# Altium integrated library Linear Technology Power Management Battery Management.IntLib: 626 symbols (part 23 of 56)
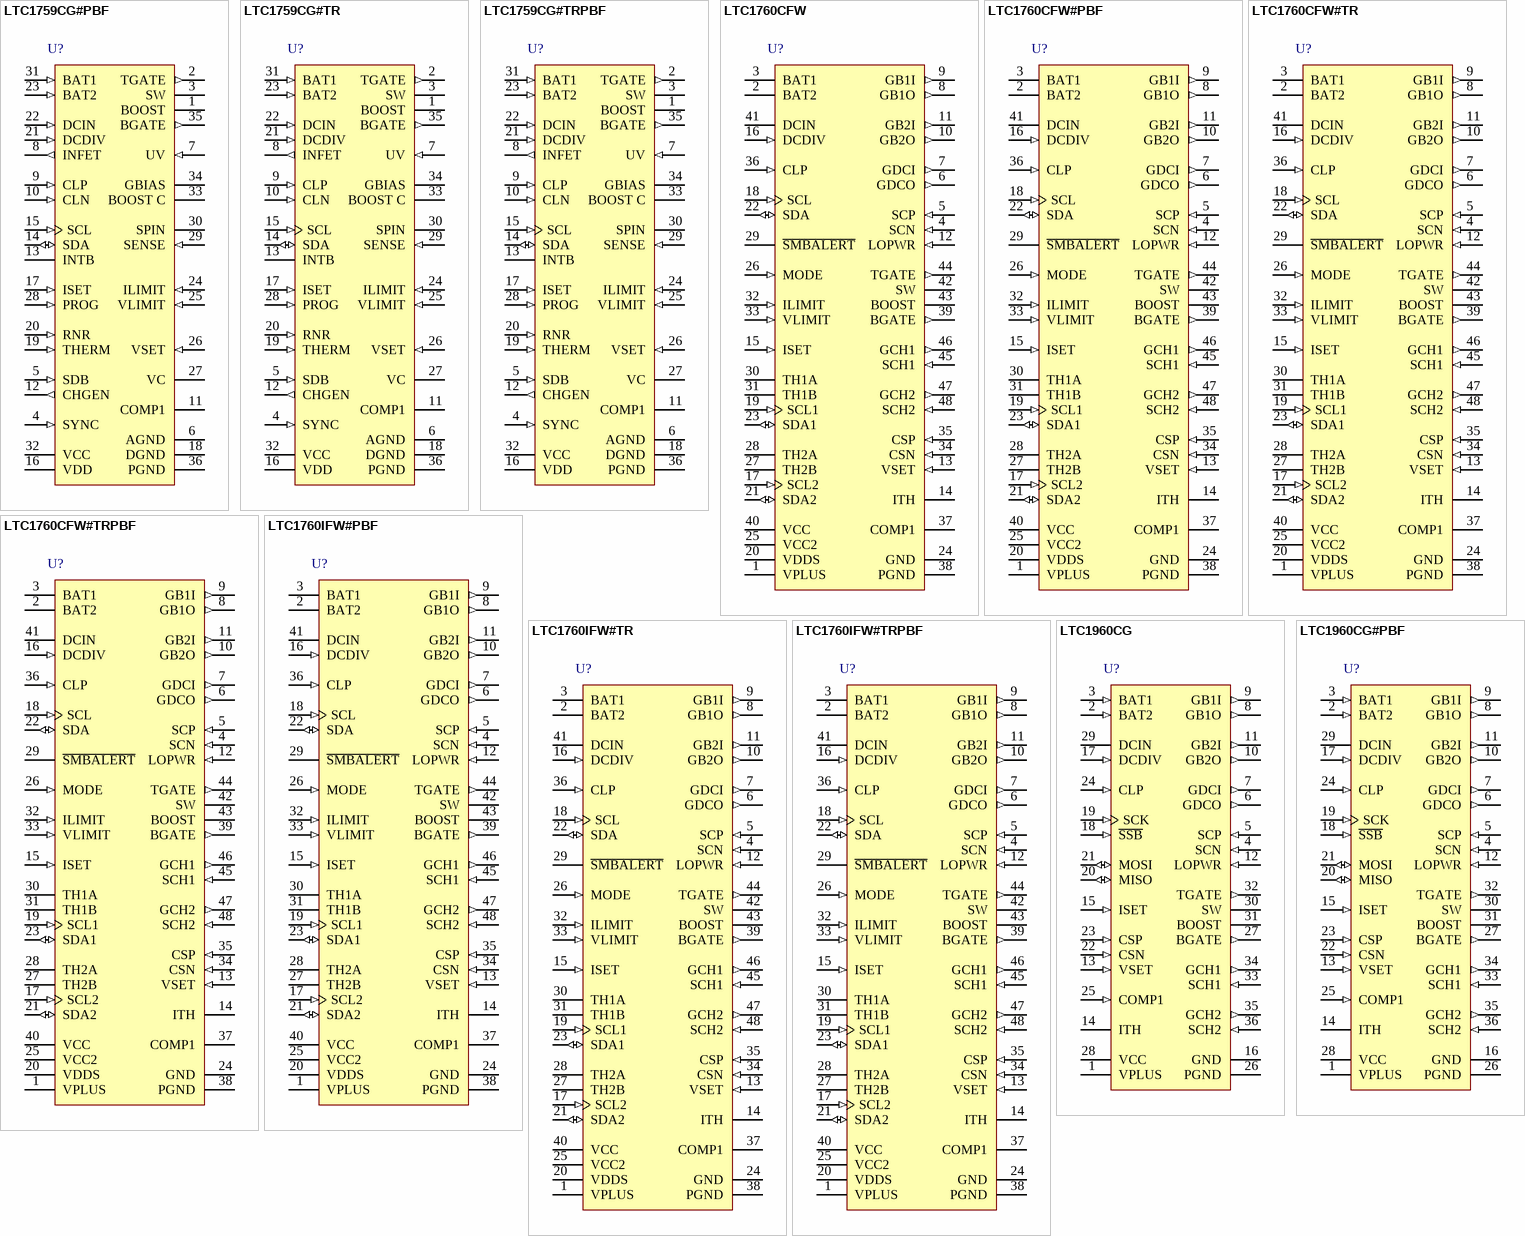
[diagram p44: symbols LTC1759CG#PBF to LTC1960CG#PBF]

## LTC1760CFW
designator U?
Dual Smart Battery System Manager, 6 to 28 V Vin, 48-pin SOP (FW-48), 0 to 85 degC; Manufacturer: Linear Technology; PartNumber: LTC1760CFW; Battery Chemistry: Li-Ion, Li-Polymer, NiCd, NiMH; Charge Termination: On-board timer, Microcontroller; Float Voltage: Adj; Max Charge Current(A): 4; Number of Cells: 2 to 6 (Li); Type of Charger: Switching, SMBus; Vin Max(V): 28; Vin Min(V): 6; DatasheetVersion: Rev. A; PackageVersion: Rev. A, 06/2010; PackageReference: FW-48; PackageDescription: 48-Pin Plastic TSSOP, Body 12.5 x 6.1 mm, Pitch 0.5 mm; Supplier 1: Digi-Key; Supplier Part Number 1: LTC1760CFW-ND; RoHS: FALSE; Mounting Technology: Surface Mount; ComponentLink1Description: Manufacturer URL; ComponentLink1URL: http://www.linear.com/; ComponentLink2Description: Datasheet; ComponentLink2URL: http://cds.linear.com/docs/en/datasheet/1760fa.pdf; ComponentLink3Description: Package Specification; ComponentLink3URL: http://cds.linear.com/docs/en/packaging/TSSOP_48_05-08-1651.pdf
footprint LT-FW-48_N (SOP, 48-Leads, Body 12.6x6.2mm, Pitch 0.5mm, IPC Medium Density)
footprint LT-FW-48_L (SOP, 48-Leads, Body 12.6x6.2mm, Pitch 0.5mm, IPC High Density)
footprint LT-FW-48_M (SOP, 48-Leads, Body 12.6x6.2mm, Pitch 0.5mm, IPC Low Density)
pins: 1 VPLUS (power) "Supply. The VPLUS pin is connected via four internal diodes to the DCIN, SCN, BAT1, and BAT2 pins. Bypass this pin with a 0.1uF capacitor and a 1uF capacitor (see Typical Applications for complete circuit).", 2 BAT2 (power) "These two pins are the inputs from the two batteries for power to the LTC1760.", 3 BAT1 (power) "These two pins are the inputs from the two batteries for power to the LTC1760.", 4 SCN (in) "PowerPath Current Sensing Negative Input. This pin should be connected directly to the “bottom” (output side) of the sense resistor, RSC, in series with the three PowerPath switch pairs, for detecting short-circ(See Datasheet)", 5 SCP (in) "PowerPath Current Sensing Positive Input. This pin should be connected directly to the “top” (switch side) of the sense resistor, RSC, in series with the three PowerPath switch pairs, for detecting short-circuit curr(See Datasheet)", 6 GDCO (out) "DCIN Output Switch Gate Drive. Together with GDCI, this pin drives the gate of the P-channel switch in series with the DCIN input switch.", 7 GDCI (out) "DCIN Input Switch Gate Drive. Together with GDCO, this pin drives the gate of the P-channel switch connected to the DCIN input.", 8 GB1O (out) "BAT1 Output Switch Gate Drive. Together with GB1I, this pin drives the gate of the P-channel switch in series with the BAT1 input switch.", 9 GB1I (out) "BAT1 Input Switch Gate Drive. Together with GB1O, this pin drives the gate of the P-channel switch connected to the BAT1 input.", 10 GB2O (out) "BAT2 Output Switch Gate Drive. Together with GB2I, this pin drives the gate of the P-channel switch in series with the BAT2 input switch.", 11 GB2I (out) "BAT2 Input Switch Gate Drive. Together with GB2O, this pin drives the gate of the P-channel switch connected to the BAT2 input.", 12 LOPWR (in) "LOPWR Comparator Input from SCN External Resistor Divider to GND. If the voltage at LOPWR pin is lower than the LOPWR comparator threshold, then system power has failed and power is autonomously switched to a higher voltage (See Datasheet)", 13 VSET (in) "The Tap Point of a Programmable Resistor Divider which Provides Battery Voltage Feedback to the Charger. A capacitor from CSN to VSET and from VSET to GND provide necessary compensation and filtering for the voltage loop.", 14 ITH "The Control Signal of the Inner Loop of the Current Mode PWM. Higher ITH voltage corresponds to higher charging current in normal operation. A capacitor of at least 0.1uF to GND filters out PWM ripple. Typical full-scale (See Datasheet)", 15 ISET (in) "A capacitor from ISET to GND is required to filter higher frequency components from the delta-sigma IDAC.", 16 DCDIV (in) "External DC Source Comparator Input from DCIN External Resistor Divider to GND. If the voltage at DCDIV pin is above the DCDIV comparator threshold, then the AC_PRESENT bit is set and the wall adapter power is considered to (See Datasheet)", 17 SCL2 (in) "SMBus Clock Signal to Smart Battery 2. Do not connect to an external pull-up. The LTC1760 connects this pin to an internal pull-up (IPULLUP) when required.", 18 SCL (in) "SMBus Clock Signal to SMBus Host. Also used to determine flashing rate for stand-alone charge indicators. Requires an external pullup to VDDS (normal SMBus operating mode). Connected to internal SMBus accelerator.", 19 SCL1 (in) "SMBus Clock Signal to Smart Battery 1. Do not connect to an external pull-up. The LTC1760 connects this pin to an internal pull-up (IPULLUP) when required.", 20 VDDS (power) "Power Supply for SMBus Accelerators. Also used in conjunction with MODE pin to modify the LTC1760 operating mode.", 21 SDA2 (io) "SMBus Data Signal to Smart Battery 2. Do not connect to an external pull-up. The LTC1760 connects this pin to an internal pull-up (IPULLUP) when required.", 22 SDA (io) "SMBus Data Signal to SMBus Host. Also used to indicate charging status of Battery 2. Requires an external pullup to VDDS. Connected to internal SMBus accelerator.", 23 SDA1 (io) "SMBus Data Signal to Smart Battery 1. Do not connect to an external pull-up. The LTC1760 connects this pin to an internal pull-up (IPULLUP) when required.", 24 GND (power) "Ground for Low Power Circuitry.", 25 VCC2 (power) "Power Supply is used Primarily to Power Internal Logic Circuitry. Must be connected to VCC.", 26 MODE (in) "Used in conjunction with VDDS to allow SCL, SDA and S\M\B\A\L\E\R\T\ to indicate charging status. May also be used as a hardware charge inhibit.", 27 TH2B "Thermistor Force/Sense Connection to Smart Battery 2 SafetySignal. Connect to Battery 2 thermistor through resistor network shown in “Typical Application.”", 28 TH2A "Thermistor Force/Sense Connection to Smart Battery 2 SafetySignal. Connect to Battery 2 thermistor through resistor network shown in “Typical Application.”", 29 ~{SMBALERT} (oc) "Active Low Interrupt Pin. Signals SMBus Host that there has been a change of status in battery or AC presence. Open drain with weak current source pull-up to VCC2 (with Schottky to allow it to be pulled to 5V externally). (See Datasheet)", 30 TH1A "Thermistor Force/Sense Connection to Smart Battery 1 SafetySignal. Connect to Battery 1 thermistor through resistor network shown in “Typical Application.”", 31 TH1B "Thermistor Force/Sense Connection to Smart Battery 1 SafetySignal. Connect to Battery 1 thermistor through resistor network shown in “Typical Application.”", 32 ILIMIT (in) "An external resistor (RILIMIT) is connected between this pin and GND. The value of the external resistor programs the range and resolution of the programmed charger current.", 33 VLIMIT (in) "An external resistor (RVLIMIT)is connected between this pin and GND. The value of the external resistor programs the range and resolution of the voltage DAC", 34 CSN (in) "Current Amplifier CA1 Input. Connect this to the common output of the charger MUX switches.", 35 CSP (in) "Current Amplifier CA1 Input. This pin and the CSN pin measure the voltage across the charge current sense resistor, RSENSE, to provide the instantaneous current signals required for both peak and average current mode (See Datasheet)", 36 CLP (in) "The Positive Input to the Supply Current Limiting Amplifier CL1. The threshold is set at 100mV above the voltage at the DCIN pin. When used to limit supply current, a filter is needed to filter out the switching noise.", 37 COMP1 "The Compensation Node for the Amplifier CL1. A capacitor is required from this pin to GND if input current amplifier CL1 is used. At input adapter current limit, this node rises to 1V. By forcing COMP1 to GND, amplifier CL1 (See Datasheet)", 38 PGND (power) "High Current Ground Return for BGATE Driver", 39 BGATE (out) "Drives the gate of the bottom external MOSFET of the battery charger buck converter.", 40 VCC (power) "Internal Regulator Output. Bypass this output with at least a 2uF to 4.7uF capacitor. Do not use this regulator output to supply external circuitry except as shown in the application circuit.", 41 DCIN (power) "Supply. External DC power source. A 0.1uF bypass capacitor must be connected to this pin as close as possible. No series resistance is allowed, since the adapter current limit comparator input is also this pin.", 42 SW "PWM Switch Node. Connected to the source of the top external MOSFET. Used as reference for top gate driver", 43 BOOST "Supply to Topside Floating Driver. The bootstrap capacitor is returned to this pin. Voltage swing at this pin is from a diode drop below VCC to (DCIN + VCC).", 44 TGATE (out) "Drives the gate of the top external MOSFET of the battery charger buck converter.", 45 SCH1 (in) "Charger MUX N-Channel Switch Source Returns. These two pins are connected to the sources of the back-to-back switch pairs Q3/Q4 and Q9/Q10 (see Typical Applications). A small pull-down current source returns these nodes to (See Datasheet)", 46 GCH1 (out) "Charger MUX N-Channel Switch Gate Drives. These two pins drive the gates of the back-to-back switch pairs, Q3/Q4 and Q9/Q10, between the charger output and the two batteries (see Typical Applications).", 47 GCH2 (out) "Charger MUX N-Channel Switch Gate Drives. These two pins drive the gates of the back-to-back switch pairs, Q3/Q4 and Q9/Q10, between the charger output and the two batteries (see Typical Applications).", 48 SCH2 (in) "Charger MUX N-Channel Switch Source Returns. These two pins are connected to the sources of the back-to-back switch pairs Q3/Q4 and Q9/Q10 (see Typical Applications). A small pull-down current source returns these nodes to (See Datasheet)"

## LTC1760CFW#PBF
designator U?
Dual Smart Battery System Manager, 6 to 28 V Vin, 48-pin SOP (FW-48), 0 to 85 degC, Pb-Free; Manufacturer: Linear Technology; PartNumber: LTC1760CFW#PBF; Battery Chemistry: Li-Ion, Li-Polymer, NiCd, NiMH; Charge Termination: On-board timer, Microcontroller; Float Voltage: Adj; Max Charge Current(A): 4; Number of Cells: 2 to 6 (Li); Type of Charger: Switching, SMBus; Vin Max(V): 28; Vin Min(V): 6; DatasheetVersion: Rev. A; PackageVersion: Rev. A, 06/2010; PackageReference: FW-48; PackageDescription: 48-Pin Plastic TSSOP, Body 12.5 x 6.1 mm, Pitch 0.5 mm; Supplier 1: Digi-Key; Supplier Part Number 1: LTC1760CFW#PBF-ND; Supplier 2: Farnell; Supplier Part Number 2: 1648021; Supplier 3: Newark; Supplier Part Number 3: 58M0705; RoHS: TRUE; Mounting Technology: Surface Mount; ComponentLink1Description: Manufacturer URL; ComponentLink1URL: http://www.linear.com/; ComponentLink2Description: Datasheet; ComponentLink2URL: http://cds.linear.com/docs/en/datasheet/1760fa.pdf; ComponentLink3Description: Package Specification; ComponentLink3URL: http://cds.linear.com/docs/en/packaging/TSSOP_48_05-08-1651.pdf
footprint LT-FW-48_N (SOP, 48-Leads, Body 12.6x6.2mm, Pitch 0.5mm, IPC Medium Density)
footprint LT-FW-48_L (SOP, 48-Leads, Body 12.6x6.2mm, Pitch 0.5mm, IPC High Density)
footprint LT-FW-48_M (SOP, 48-Leads, Body 12.6x6.2mm, Pitch 0.5mm, IPC Low Density)
pins: 1 VPLUS (power) "Supply. The VPLUS pin is connected via four internal diodes to the DCIN, SCN, BAT1, and BAT2 pins. Bypass this pin with a 0.1uF capacitor and a 1uF capacitor (see Typical Applications for complete circuit).", 2 BAT2 (power) "These two pins are the inputs from the two batteries for power to the LTC1760.", 3 BAT1 (power) "These two pins are the inputs from the two batteries for power to the LTC1760.", 4 SCN (in) "PowerPath Current Sensing Negative Input. This pin should be connected directly to the “bottom” (output side) of the sense resistor, RSC, in series with the three PowerPath switch pairs, for detecting short-circ(See Datasheet)", 5 SCP (in) "PowerPath Current Sensing Positive Input. This pin should be connected directly to the “top” (switch side) of the sense resistor, RSC, in series with the three PowerPath switch pairs, for detecting short-circuit curr(See Datasheet)", 6 GDCO (out) "DCIN Output Switch Gate Drive. Together with GDCI, this pin drives the gate of the P-channel switch in series with the DCIN input switch.", 7 GDCI (out) "DCIN Input Switch Gate Drive. Together with GDCO, this pin drives the gate of the P-channel switch connected to the DCIN input.", 8 GB1O (out) "BAT1 Output Switch Gate Drive. Together with GB1I, this pin drives the gate of the P-channel switch in series with the BAT1 input switch.", 9 GB1I (out) "BAT1 Input Switch Gate Drive. Together with GB1O, this pin drives the gate of the P-channel switch connected to the BAT1 input.", 10 GB2O (out) "BAT2 Output Switch Gate Drive. Together with GB2I, this pin drives the gate of the P-channel switch in series with the BAT2 input switch.", 11 GB2I (out) "BAT2 Input Switch Gate Drive. Together with GB2O, this pin drives the gate of the P-channel switch connected to the BAT2 input.", 12 LOPWR (in) "LOPWR Comparator Input from SCN External Resistor Divider to GND. If the voltage at LOPWR pin is lower than the LOPWR comparator threshold, then system power has failed and power is autonomously switched to a higher voltage (See Datasheet)", 13 VSET (in) "The Tap Point of a Programmable Resistor Divider which Provides Battery Voltage Feedback to the Charger. A capacitor from CSN to VSET and from VSET to GND provide necessary compensation and filtering for the voltage loop.", 14 ITH "The Control Signal of the Inner Loop of the Current Mode PWM. Higher ITH voltage corresponds to higher charging current in normal operation. A capacitor of at least 0.1uF to GND filters out PWM ripple. Typical full-scale (See Datasheet)", 15 ISET (in) "A capacitor from ISET to GND is required to filter higher frequency components from the delta-sigma IDAC.", 16 DCDIV (in) "External DC Source Comparator Input from DCIN External Resistor Divider to GND. If the voltage at DCDIV pin is above the DCDIV comparator threshold, then the AC_PRESENT bit is set and the wall adapter power is considered to (See Datasheet)", 17 SCL2 (in) "SMBus Clock Signal to Smart Battery 2. Do not connect to an external pull-up. The LTC1760 connects this pin to an internal pull-up (IPULLUP) when required.", 18 SCL (in) "SMBus Clock Signal to SMBus Host. Also used to determine flashing rate for stand-alone charge indicators. Requires an external pullup to VDDS (normal SMBus operating mode). Connected to internal SMBus accelerator.", 19 SCL1 (in) "SMBus Clock Signal to Smart Battery 1. Do not connect to an external pull-up. The LTC1760 connects this pin to an internal pull-up (IPULLUP) when required.", 20 VDDS (power) "Power Supply for SMBus Accelerators. Also used in conjunction with MODE pin to modify the LTC1760 operating mode.", 21 SDA2 (io) "SMBus Data Signal to Smart Battery 2. Do not connect to an external pull-up. The LTC1760 connects this pin to an internal pull-up (IPULLUP) when required.", 22 SDA (io) "SMBus Data Signal to SMBus Host. Also used to indicate charging status of Battery 2. Requires an external pullup to VDDS. Connected to internal SMBus accelerator.", 23 SDA1 (io) "SMBus Data Signal to Smart Battery 1. Do not connect to an external pull-up. The LTC1760 connects this pin to an internal pull-up (IPULLUP) when required.", 24 GND (power) "Ground for Low Power Circuitry.", 25 VCC2 (power) "Power Supply is used Primarily to Power Internal Logic Circuitry. Must be connected to VCC.", 26 MODE (in) "Used in conjunction with VDDS to allow SCL, SDA and S\M\B\A\L\E\R\T\ to indicate charging status. May also be used as a hardware charge inhibit.", 27 TH2B "Thermistor Force/Sense Connection to Smart Battery 2 SafetySignal. Connect to Battery 2 thermistor through resistor network shown in “Typical Application.”", 28 TH2A "Thermistor Force/Sense Connection to Smart Battery 2 SafetySignal. Connect to Battery 2 thermistor through resistor network shown in “Typical Application.”", 29 ~{SMBALERT} (oc) "Active Low Interrupt Pin. Signals SMBus Host that there has been a change of status in battery or AC presence. Open drain with weak current source pull-up to VCC2 (with Schottky to allow it to be pulled to 5V externally). (See Datasheet)", 30 TH1A "Thermistor Force/Sense Connection to Smart Battery 1 SafetySignal. Connect to Battery 1 thermistor through resistor network shown in “Typical Application.”", 31 TH1B "Thermistor Force/Sense Connection to Smart Battery 1 SafetySignal. Connect to Battery 1 thermistor through resistor network shown in “Typical Application.”", 32 ILIMIT (in) "An external resistor (RILIMIT) is connected between this pin and GND. The value of the external resistor programs the range and resolution of the programmed charger current.", 33 VLIMIT (in) "An external resistor (RVLIMIT)is connected between this pin and GND. The value of the external resistor programs the range and resolution of the voltage DAC", 34 CSN (in) "Current Amplifier CA1 Input. Connect this to the common output of the charger MUX switches.", 35 CSP (in) "Current Amplifier CA1 Input. This pin and the CSN pin measure the voltage across the charge current sense resistor, RSENSE, to provide the instantaneous current signals required for both peak and average current mode (See Datasheet)", 36 CLP (in) "The Positive Input to the Supply Current Limiting Amplifier CL1. The threshold is set at 100mV above the voltage at the DCIN pin. When used to limit supply current, a filter is needed to filter out the switching noise.", 37 COMP1 "The Compensation Node for the Amplifier CL1. A capacitor is required from this pin to GND if input current amplifier CL1 is used. At input adapter current limit, this node rises to 1V. By forcing COMP1 to GND, amplifier CL1 (See Datasheet)", 38 PGND (power) "High Current Ground Return for BGATE Driver", 39 BGATE (out) "Drives the gate of the bottom external MOSFET of the battery charger buck converter.", 40 VCC (power) "Internal Regulator Output. Bypass this output with at least a 2uF to 4.7uF capacitor. Do not use this regulator output to supply external circuitry except as shown in the application circuit.", 41 DCIN (power) "Supply. External DC power source. A 0.1uF bypass capacitor must be connected to this pin as close as possible. No series resistance is allowed, since the adapter current limit comparator input is also this pin.", 42 SW "PWM Switch Node. Connected to the source of the top external MOSFET. Used as reference for top gate driver", 43 BOOST "Supply to Topside Floating Driver. The bootstrap capacitor is returned to this pin. Voltage swing at this pin is from a diode drop below VCC to (DCIN + VCC).", 44 TGATE (out) "Drives the gate of the top external MOSFET of the battery charger buck converter.", 45 SCH1 (in) "Charger MUX N-Channel Switch Source Returns. These two pins are connected to the sources of the back-to-back switch pairs Q3/Q4 and Q9/Q10 (see Typical Applications). A small pull-down current source returns these nodes to (See Datasheet)", 46 GCH1 (out) "Charger MUX N-Channel Switch Gate Drives. These two pins drive the gates of the back-to-back switch pairs, Q3/Q4 and Q9/Q10, between the charger output and the two batteries (see Typical Applications).", 47 GCH2 (out) "Charger MUX N-Channel Switch Gate Drives. These two pins drive the gates of the back-to-back switch pairs, Q3/Q4 and Q9/Q10, between the charger output and the two batteries (see Typical Applications).", 48 SCH2 (in) "Charger MUX N-Channel Switch Source Returns. These two pins are connected to the sources of the back-to-back switch pairs Q3/Q4 and Q9/Q10 (see Typical Applications). A small pull-down current source returns these nodes to (See Datasheet)"

## LTC1760CFW#TR
designator U?
Dual Smart Battery System Manager, 6 to 28 V Vin, 48-pin SOP (FW-48), 0 to 85 degC, Tape and Reel; Manufacturer: Linear Technology; PartNumber: LTC1760CFW#TR; Battery Chemistry: Li-Ion, Li-Polymer, NiCd, NiMH; Charge Termination: On-board timer, Microcontroller; Float Voltage: Adj; Max Charge Current(A): 4; Number of Cells: 2 to 6 (Li); Type of Charger: Switching, SMBus; Vin Max(V): 28; Vin Min(V): 6; DatasheetVersion: Rev. A; PackageVersion: Rev. A, 06/2010; PackageReference: FW-48; PackageDescription: 48-Pin Plastic TSSOP, Body 12.5 x 6.1 mm, Pitch 0.5 mm; Supplier 1: Digi-Key; Supplier Part Number 1: LTC1760CFW#TR-ND; Packing: Tape and Reel; RoHS: FALSE; Mounting Technology: Surface Mount; ComponentLink1Description: Manufacturer URL; ComponentLink1URL: http://www.linear.com/; ComponentLink2Description: Datasheet; ComponentLink2URL: http://cds.linear.com/docs/en/datasheet/1760fa.pdf; ComponentLink3Description: Package Specification; ComponentLink3URL: http://cds.linear.com/docs/en/packaging/TSSOP_48_05-08-1651.pdf
footprint LT-FW-48_N (SOP, 48-Leads, Body 12.6x6.2mm, Pitch 0.5mm, IPC Medium Density)
footprint LT-FW-48_L (SOP, 48-Leads, Body 12.6x6.2mm, Pitch 0.5mm, IPC High Density)
footprint LT-FW-48_M (SOP, 48-Leads, Body 12.6x6.2mm, Pitch 0.5mm, IPC Low Density)
pins: 1 VPLUS (power) "Supply. The VPLUS pin is connected via four internal diodes to the DCIN, SCN, BAT1, and BAT2 pins. Bypass this pin with a 0.1uF capacitor and a 1uF capacitor (see Typical Applications for complete circuit).", 2 BAT2 (power) "These two pins are the inputs from the two batteries for power to the LTC1760.", 3 BAT1 (power) "These two pins are the inputs from the two batteries for power to the LTC1760.", 4 SCN (in) "PowerPath Current Sensing Negative Input. This pin should be connected directly to the “bottom” (output side) of the sense resistor, RSC, in series with the three PowerPath switch pairs, for detecting short-circ(See Datasheet)", 5 SCP (in) "PowerPath Current Sensing Positive Input. This pin should be connected directly to the “top” (switch side) of the sense resistor, RSC, in series with the three PowerPath switch pairs, for detecting short-circuit curr(See Datasheet)", 6 GDCO (out) "DCIN Output Switch Gate Drive. Together with GDCI, this pin drives the gate of the P-channel switch in series with the DCIN input switch.", 7 GDCI (out) "DCIN Input Switch Gate Drive. Together with GDCO, this pin drives the gate of the P-channel switch connected to the DCIN input.", 8 GB1O (out) "BAT1 Output Switch Gate Drive. Together with GB1I, this pin drives the gate of the P-channel switch in series with the BAT1 input switch.", 9 GB1I (out) "BAT1 Input Switch Gate Drive. Together with GB1O, this pin drives the gate of the P-channel switch connected to the BAT1 input.", 10 GB2O (out) "BAT2 Output Switch Gate Drive. Together with GB2I, this pin drives the gate of the P-channel switch in series with the BAT2 input switch.", 11 GB2I (out) "BAT2 Input Switch Gate Drive. Together with GB2O, this pin drives the gate of the P-channel switch connected to the BAT2 input.", 12 LOPWR (in) "LOPWR Comparator Input from SCN External Resistor Divider to GND. If the voltage at LOPWR pin is lower than the LOPWR comparator threshold, then system power has failed and power is autonomously switched to a higher voltage (See Datasheet)", 13 VSET (in) "The Tap Point of a Programmable Resistor Divider which Provides Battery Voltage Feedback to the Charger. A capacitor from CSN to VSET and from VSET to GND provide necessary compensation and filtering for the voltage loop.", 14 ITH "The Control Signal of the Inner Loop of the Current Mode PWM. Higher ITH voltage corresponds to higher charging current in normal operation. A capacitor of at least 0.1uF to GND filters out PWM ripple. Typical full-scale (See Datasheet)", 15 ISET (in) "A capacitor from ISET to GND is required to filter higher frequency components from the delta-sigma IDAC.", 16 DCDIV (in) "External DC Source Comparator Input from DCIN External Resistor Divider to GND. If the voltage at DCDIV pin is above the DCDIV comparator threshold, then the AC_PRESENT bit is set and the wall adapter power is considered to (See Datasheet)", 17 SCL2 (in) "SMBus Clock Signal to Smart Battery 2. Do not connect to an external pull-up. The LTC1760 connects this pin to an internal pull-up (IPULLUP) when required.", 18 SCL (in) "SMBus Clock Signal to SMBus Host. Also used to determine flashing rate for stand-alone charge indicators. Requires an external pullup to VDDS (normal SMBus operating mode). Connected to internal SMBus accelerator.", 19 SCL1 (in) "SMBus Clock Signal to Smart Battery 1. Do not connect to an external pull-up. The LTC1760 connects this pin to an internal pull-up (IPULLUP) when required.", 20 VDDS (power) "Power Supply for SMBus Accelerators. Also used in conjunction with MODE pin to modify the LTC1760 operating mode.", 21 SDA2 (io) "SMBus Data Signal to Smart Battery 2. Do not connect to an external pull-up. The LTC1760 connects this pin to an internal pull-up (IPULLUP) when required.", 22 SDA (io) "SMBus Data Signal to SMBus Host. Also used to indicate charging status of Battery 2. Requires an external pullup to VDDS. Connected to internal SMBus accelerator.", 23 SDA1 (io) "SMBus Data Signal to Smart Battery 1. Do not connect to an external pull-up. The LTC1760 connects this pin to an internal pull-up (IPULLUP) when required.", 24 GND (power) "Ground for Low Power Circuitry.", 25 VCC2 (power) "Power Supply is used Primarily to Power Internal Logic Circuitry. Must be connected to VCC.", 26 MODE (in) "Used in conjunction with VDDS to allow SCL, SDA and S\M\B\A\L\E\R\T\ to indicate charging status. May also be used as a hardware charge inhibit.", 27 TH2B "Thermistor Force/Sense Connection to Smart Battery 2 SafetySignal. Connect to Battery 2 thermistor through resistor network shown in “Typical Application.”", 28 TH2A "Thermistor Force/Sense Connection to Smart Battery 2 SafetySignal. Connect to Battery 2 thermistor through resistor network shown in “Typical Application.”", 29 ~{SMBALERT} (oc) "Active Low Interrupt Pin. Signals SMBus Host that there has been a change of status in battery or AC presence. Open drain with weak current source pull-up to VCC2 (with Schottky to allow it to be pulled to 5V externally). (See Datasheet)", 30 TH1A "Thermistor Force/Sense Connection to Smart Battery 1 SafetySignal. Connect to Battery 1 thermistor through resistor network shown in “Typical Application.”", 31 TH1B "Thermistor Force/Sense Connection to Smart Battery 1 SafetySignal. Connect to Battery 1 thermistor through resistor network shown in “Typical Application.”", 32 ILIMIT (in) "An external resistor (RILIMIT) is connected between this pin and GND. The value of the external resistor programs the range and resolution of the programmed charger current.", 33 VLIMIT (in) "An external resistor (RVLIMIT)is connected between this pin and GND. The value of the external resistor programs the range and resolution of the voltage DAC", 34 CSN (in) "Current Amplifier CA1 Input. Connect this to the common output of the charger MUX switches.", 35 CSP (in) "Current Amplifier CA1 Input. This pin and the CSN pin measure the voltage across the charge current sense resistor, RSENSE, to provide the instantaneous current signals required for both peak and average current mode (See Datasheet)", 36 CLP (in) "The Positive Input to the Supply Current Limiting Amplifier CL1. The threshold is set at 100mV above the voltage at the DCIN pin. When used to limit supply current, a filter is needed to filter out the switching noise.", 37 COMP1 "The Compensation Node for the Amplifier CL1. A capacitor is required from this pin to GND if input current amplifier CL1 is used. At input adapter current limit, this node rises to 1V. By forcing COMP1 to GND, amplifier CL1 (See Datasheet)", 38 PGND (power) "High Current Ground Return for BGATE Driver", 39 BGATE (out) "Drives the gate of the bottom external MOSFET of the battery charger buck converter.", 40 VCC (power) "Internal Regulator Output. Bypass this output with at least a 2uF to 4.7uF capacitor. Do not use this regulator output to supply external circuitry except as shown in the application circuit.", 41 DCIN (power) "Supply. External DC power source. A 0.1uF bypass capacitor must be connected to this pin as close as possible. No series resistance is allowed, since the adapter current limit comparator input is also this pin.", 42 SW "PWM Switch Node. Connected to the source of the top external MOSFET. Used as reference for top gate driver", 43 BOOST "Supply to Topside Floating Driver. The bootstrap capacitor is returned to this pin. Voltage swing at this pin is from a diode drop below VCC to (DCIN + VCC).", 44 TGATE (out) "Drives the gate of the top external MOSFET of the battery charger buck converter.", 45 SCH1 (in) "Charger MUX N-Channel Switch Source Returns. These two pins are connected to the sources of the back-to-back switch pairs Q3/Q4 and Q9/Q10 (see Typical Applications). A small pull-down current source returns these nodes to (See Datasheet)", 46 GCH1 (out) "Charger MUX N-Channel Switch Gate Drives. These two pins drive the gates of the back-to-back switch pairs, Q3/Q4 and Q9/Q10, between the charger output and the two batteries (see Typical Applications).", 47 GCH2 (out) "Charger MUX N-Channel Switch Gate Drives. These two pins drive the gates of the back-to-back switch pairs, Q3/Q4 and Q9/Q10, between the charger output and the two batteries (see Typical Applications).", 48 SCH2 (in) "Charger MUX N-Channel Switch Source Returns. These two pins are connected to the sources of the back-to-back switch pairs Q3/Q4 and Q9/Q10 (see Typical Applications). A small pull-down current source returns these nodes to (See Datasheet)"

## LTC1760CFW#TRPBF
designator U?
Dual Smart Battery System Manager, 6 to 28 V Vin, 48-pin SOP (FW-48), 0 to 85 degC, Pb-Free, Tape and Reel; Manufacturer: Linear Technology; PartNumber: LTC1760CFW#TRPBF; Battery Chemistry: Li-Ion, Li-Polymer, NiCd, NiMH; Charge Termination: On-board timer, Microcontroller; Float Voltage: Adj; Max Charge Current(A): 4; Number of Cells: 2 to 6 (Li); Type of Charger: Switching, SMBus; Vin Max(V): 28; Vin Min(V): 6; DatasheetVersion: Rev. A; PackageVersion: Rev. A, 06/2010; PackageReference: FW-48; PackageDescription: 48-Pin Plastic TSSOP, Body 12.5 x 6.1 mm, Pitch 0.5 mm; Supplier 1: Digi-Key; Supplier Part Number 1: LTC1760CFW#TRPBF-ND; Supplier 2: Newark; Supplier Part Number 2: 58M0707; Packing: Tape and Reel; RoHS: TRUE; Mounting Technology: Surface Mount; ComponentLink1Description: Manufacturer URL; ComponentLink1URL: http://www.linear.com/; ComponentLink2Description: Datasheet; ComponentLink2URL: http://cds.linear.com/docs/en/datasheet/1760fa.pdf; ComponentLink3Description: Package Specification; ComponentLink3URL: http://cds.linear.com/docs/en/packaging/TSSOP_48_05-08-1651.pdf
footprint LT-FW-48_N (SOP, 48-Leads, Body 12.6x6.2mm, Pitch 0.5mm, IPC Medium Density)
footprint LT-FW-48_L (SOP, 48-Leads, Body 12.6x6.2mm, Pitch 0.5mm, IPC High Density)
footprint LT-FW-48_M (SOP, 48-Leads, Body 12.6x6.2mm, Pitch 0.5mm, IPC Low Density)
pins: 1 VPLUS (power) "Supply. The VPLUS pin is connected via four internal diodes to the DCIN, SCN, BAT1, and BAT2 pins. Bypass this pin with a 0.1uF capacitor and a 1uF capacitor (see Typical Applications for complete circuit).", 2 BAT2 (power) "These two pins are the inputs from the two batteries for power to the LTC1760.", 3 BAT1 (power) "These two pins are the inputs from the two batteries for power to the LTC1760.", 4 SCN (in) "PowerPath Current Sensing Negative Input. This pin should be connected directly to the “bottom” (output side) of the sense resistor, RSC, in series with the three PowerPath switch pairs, for detecting short-circ(See Datasheet)", 5 SCP (in) "PowerPath Current Sensing Positive Input. This pin should be connected directly to the “top” (switch side) of the sense resistor, RSC, in series with the three PowerPath switch pairs, for detecting short-circuit curr(See Datasheet)", 6 GDCO (out) "DCIN Output Switch Gate Drive. Together with GDCI, this pin drives the gate of the P-channel switch in series with the DCIN input switch.", 7 GDCI (out) "DCIN Input Switch Gate Drive. Together with GDCO, this pin drives the gate of the P-channel switch connected to the DCIN input.", 8 GB1O (out) "BAT1 Output Switch Gate Drive. Together with GB1I, this pin drives the gate of the P-channel switch in series with the BAT1 input switch.", 9 GB1I (out) "BAT1 Input Switch Gate Drive. Together with GB1O, this pin drives the gate of the P-channel switch connected to the BAT1 input.", 10 GB2O (out) "BAT2 Output Switch Gate Drive. Together with GB2I, this pin drives the gate of the P-channel switch in series with the BAT2 input switch.", 11 GB2I (out) "BAT2 Input Switch Gate Drive. Together with GB2O, this pin drives the gate of the P-channel switch connected to the BAT2 input.", 12 LOPWR (in) "LOPWR Comparator Input from SCN External Resistor Divider to GND. If the voltage at LOPWR pin is lower than the LOPWR comparator threshold, then system power has failed and power is autonomously switched to a higher voltage (See Datasheet)", 13 VSET (in) "The Tap Point of a Programmable Resistor Divider which Provides Battery Voltage Feedback to the Charger. A capacitor from CSN to VSET and from VSET to GND provide necessary compensation and filtering for the voltage loop.", 14 ITH "The Control Signal of the Inner Loop of the Current Mode PWM. Higher ITH voltage corresponds to higher charging current in normal operation. A capacitor of at least 0.1uF to GND filters out PWM ripple. Typical full-scale (See Datasheet)", 15 ISET (in) "A capacitor from ISET to GND is required to filter higher frequency components from the delta-sigma IDAC.", 16 DCDIV (in) "External DC Source Comparator Input from DCIN External Resistor Divider to GND. If the voltage at DCDIV pin is above the DCDIV comparator threshold, then the AC_PRESENT bit is set and the wall adapter power is considered to (See Datasheet)", 17 SCL2 (in) "SMBus Clock Signal to Smart Battery 2. Do not connect to an external pull-up. The LTC1760 connects this pin to an internal pull-up (IPULLUP) when required.", 18 SCL (in) "SMBus Clock Signal to SMBus Host. Also used to determine flashing rate for stand-alone charge indicators. Requires an external pullup to VDDS (normal SMBus operating mode). Connected to internal SMBus accelerator.", 19 SCL1 (in) "SMBus Clock Signal to Smart Battery 1. Do not connect to an external pull-up. The LTC1760 connects this pin to an internal pull-up (IPULLUP) when required.", 20 VDDS (power) "Power Supply for SMBus Accelerators. Also used in conjunction with MODE pin to modify the LTC1760 operating mode.", 21 SDA2 (io) "SMBus Data Signal to Smart Battery 2. Do not connect to an external pull-up. The LTC1760 connects this pin to an internal pull-up (IPULLUP) when required.", 22 SDA (io) "SMBus Data Signal to SMBus Host. Also used to indicate charging status of Battery 2. Requires an external pullup to VDDS. Connected to internal SMBus accelerator.", 23 SDA1 (io) "SMBus Data Signal to Smart Battery 1. Do not connect to an external pull-up. The LTC1760 connects this pin to an internal pull-up (IPULLUP) when required.", 24 GND (power) "Ground for Low Power Circuitry.", 25 VCC2 (power) "Power Supply is used Primarily to Power Internal Logic Circuitry. Must be connected to VCC.", 26 MODE (in) "Used in conjunction with VDDS to allow SCL, SDA and S\M\B\A\L\E\R\T\ to indicate charging status. May also be used as a hardware charge inhibit.", 27 TH2B "Thermistor Force/Sense Connection to Smart Battery 2 SafetySignal. Connect to Battery 2 thermistor through resistor network shown in “Typical Application.”", 28 TH2A "Thermistor Force/Sense Connection to Smart Battery 2 SafetySignal. Connect to Battery 2 thermistor through resistor network shown in “Typical Application.”", 29 ~{SMBALERT} (oc) "Active Low Interrupt Pin. Signals SMBus Host that there has been a change of status in battery or AC presence. Open drain with weak current source pull-up to VCC2 (with Schottky to allow it to be pulled to 5V externally). (See Datasheet)", 30 TH1A "Thermistor Force/Sense Connection to Smart Battery 1 SafetySignal. Connect to Battery 1 thermistor through resistor network shown in “Typical Application.”", 31 TH1B "Thermistor Force/Sense Connection to Smart Battery 1 SafetySignal. Connect to Battery 1 thermistor through resistor network shown in “Typical Application.”", 32 ILIMIT (in) "An external resistor (RILIMIT) is connected between this pin and GND. The value of the external resistor programs the range and resolution of the programmed charger current.", 33 VLIMIT (in) "An external resistor (RVLIMIT)is connected between this pin and GND. The value of the external resistor programs the range and resolution of the voltage DAC", 34 CSN (in) "Current Amplifier CA1 Input. Connect this to the common output of the charger MUX switches.", 35 CSP (in) "Current Amplifier CA1 Input. This pin and the CSN pin measure the voltage across the charge current sense resistor, RSENSE, to provide the instantaneous current signals required for both peak and average current mode (See Datasheet)", 36 CLP (in) "The Positive Input to the Supply Current Limiting Amplifier CL1. The threshold is set at 100mV above the voltage at the DCIN pin. When used to limit supply current, a filter is needed to filter out the switching noise.", 37 COMP1 "The Compensation Node for the Amplifier CL1. A capacitor is required from this pin to GND if input current amplifier CL1 is used. At input adapter current limit, this node rises to 1V. By forcing COMP1 to GND, amplifier CL1 (See Datasheet)", 38 PGND (power) "High Current Ground Return for BGATE Driver", 39 BGATE (out) "Drives the gate of the bottom external MOSFET of the battery charger buck converter.", 40 VCC (power) "Internal Regulator Output. Bypass this output with at least a 2uF to 4.7uF capacitor. Do not use this regulator output to supply external circuitry except as shown in the application circuit.", 41 DCIN (power) "Supply. External DC power source. A 0.1uF bypass capacitor must be connected to this pin as close as possible. No series resistance is allowed, since the adapter current limit comparator input is also this pin.", 42 SW "PWM Switch Node. Connected to the source of the top external MOSFET. Used as reference for top gate driver", 43 BOOST "Supply to Topside Floating Driver. The bootstrap capacitor is returned to this pin. Voltage swing at this pin is from a diode drop below VCC to (DCIN + VCC).", 44 TGATE (out) "Drives the gate of the top external MOSFET of the battery charger buck converter.", 45 SCH1 (in) "Charger MUX N-Channel Switch Source Returns. These two pins are connected to the sources of the back-to-back switch pairs Q3/Q4 and Q9/Q10 (see Typical Applications). A small pull-down current source returns these nodes to (See Datasheet)", 46 GCH1 (out) "Charger MUX N-Channel Switch Gate Drives. These two pins drive the gates of the back-to-back switch pairs, Q3/Q4 and Q9/Q10, between the charger output and the two batteries (see Typical Applications).", 47 GCH2 (out) "Charger MUX N-Channel Switch Gate Drives. These two pins drive the gates of the back-to-back switch pairs, Q3/Q4 and Q9/Q10, between the charger output and the two batteries (see Typical Applications).", 48 SCH2 (in) "Charger MUX N-Channel Switch Source Returns. These two pins are connected to the sources of the back-to-back switch pairs Q3/Q4 and Q9/Q10 (see Typical Applications). A small pull-down current source returns these nodes to (See Datasheet)"

## LTC1760IFW#PBF
designator U?
Dual Smart Battery System Manager, 6 to 28 V Vin, 48-pin SOP (FW-48), -40 to 125 degC, Pb-Free; Manufacturer: Linear Technology; PartNumber: LTC1760IFW#PBF; Battery Chemistry: Li-Ion, Li-Polymer, NiCd, NiMH; Charge Termination: On-board timer, Microcontroller; Float Voltage: Adj; Max Charge Current(A): 4; Number of Cells: 2 to 6 (Li); Type of Charger: Switching, SMBus; Vin Max(V): 28; Vin Min(V): 6; DatasheetVersion: Rev. A; PackageVersion: Rev. A, 06/2010; PackageReference: FW-48; PackageDescription: 48-Pin Plastic TSSOP, Body 12.5 x 6.1 mm, Pitch 0.5 mm; Supplier 1: Digi-Key; Supplier Part Number 1: LTC1760IFW#PBF-ND; Supplier 2: Newark; Supplier Part Number 2: 59T9315; RoHS: TRUE; Mounting Technology: Surface Mount; ComponentLink1Description: Manufacturer URL; ComponentLink1URL: http://www.linear.com/; ComponentLink2Description: Datasheet; ComponentLink2URL: http://cds.linear.com/docs/en/datasheet/1760fa.pdf; ComponentLink3Description: Package Specification; ComponentLink3URL: http://cds.linear.com/docs/en/packaging/TSSOP_48_05-08-1651.pdf
footprint LT-FW-48_N (SOP, 48-Leads, Body 12.6x6.2mm, Pitch 0.5mm, IPC Medium Density)
footprint LT-FW-48_L (SOP, 48-Leads, Body 12.6x6.2mm, Pitch 0.5mm, IPC High Density)
footprint LT-FW-48_M (SOP, 48-Leads, Body 12.6x6.2mm, Pitch 0.5mm, IPC Low Density)
pins: 1 VPLUS (power) "Supply. The VPLUS pin is connected via four internal diodes to the DCIN, SCN, BAT1, and BAT2 pins. Bypass this pin with a 0.1uF capacitor and a 1uF capacitor (see Typical Applications for complete circuit).", 2 BAT2 (power) "These two pins are the inputs from the two batteries for power to the LTC1760.", 3 BAT1 (power) "These two pins are the inputs from the two batteries for power to the LTC1760.", 4 SCN (in) "PowerPath Current Sensing Negative Input. This pin should be connected directly to the “bottom” (output side) of the sense resistor, RSC, in series with the three PowerPath switch pairs, for detecting short-circ(See Datasheet)", 5 SCP (in) "PowerPath Current Sensing Positive Input. This pin should be connected directly to the “top” (switch side) of the sense resistor, RSC, in series with the three PowerPath switch pairs, for detecting short-circuit curr(See Datasheet)", 6 GDCO (out) "DCIN Output Switch Gate Drive. Together with GDCI, this pin drives the gate of the P-channel switch in series with the DCIN input switch.", 7 GDCI (out) "DCIN Input Switch Gate Drive. Together with GDCO, this pin drives the gate of the P-channel switch connected to the DCIN input.", 8 GB1O (out) "BAT1 Output Switch Gate Drive. Together with GB1I, this pin drives the gate of the P-channel switch in series with the BAT1 input switch.", 9 GB1I (out) "BAT1 Input Switch Gate Drive. Together with GB1O, this pin drives the gate of the P-channel switch connected to the BAT1 input.", 10 GB2O (out) "BAT2 Output Switch Gate Drive. Together with GB2I, this pin drives the gate of the P-channel switch in series with the BAT2 input switch.", 11 GB2I (out) "BAT2 Input Switch Gate Drive. Together with GB2O, this pin drives the gate of the P-channel switch connected to the BAT2 input.", 12 LOPWR (in) "LOPWR Comparator Input from SCN External Resistor Divider to GND. If the voltage at LOPWR pin is lower than the LOPWR comparator threshold, then system power has failed and power is autonomously switched to a higher voltage (See Datasheet)", 13 VSET (in) "The Tap Point of a Programmable Resistor Divider which Provides Battery Voltage Feedback to the Charger. A capacitor from CSN to VSET and from VSET to GND provide necessary compensation and filtering for the voltage loop.", 14 ITH "The Control Signal of the Inner Loop of the Current Mode PWM. Higher ITH voltage corresponds to higher charging current in normal operation. A capacitor of at least 0.1uF to GND filters out PWM ripple. Typical full-scale (See Datasheet)", 15 ISET (in) "A capacitor from ISET to GND is required to filter higher frequency components from the delta-sigma IDAC.", 16 DCDIV (in) "External DC Source Comparator Input from DCIN External Resistor Divider to GND. If the voltage at DCDIV pin is above the DCDIV comparator threshold, then the AC_PRESENT bit is set and the wall adapter power is considered to (See Datasheet)", 17 SCL2 (in) "SMBus Clock Signal to Smart Battery 2. Do not connect to an external pull-up. The LTC1760 connects this pin to an internal pull-up (IPULLUP) when required.", 18 SCL (in) "SMBus Clock Signal to SMBus Host. Also used to determine flashing rate for stand-alone charge indicators. Requires an external pullup to VDDS (normal SMBus operating mode). Connected to internal SMBus accelerator.", 19 SCL1 (in) "SMBus Clock Signal to Smart Battery 1. Do not connect to an external pull-up. The LTC1760 connects this pin to an internal pull-up (IPULLUP) when required.", 20 VDDS (power) "Power Supply for SMBus Accelerators. Also used in conjunction with MODE pin to modify the LTC1760 operating mode.", 21 SDA2 (io) "SMBus Data Signal to Smart Battery 2. Do not connect to an external pull-up. The LTC1760 connects this pin to an internal pull-up (IPULLUP) when required.", 22 SDA (io) "SMBus Data Signal to SMBus Host. Also used to indicate charging status of Battery 2. Requires an external pullup to VDDS. Connected to internal SMBus accelerator.", 23 SDA1 (io) "SMBus Data Signal to Smart Battery 1. Do not connect to an external pull-up. The LTC1760 connects this pin to an internal pull-up (IPULLUP) when required.", 24 GND (power) "Ground for Low Power Circuitry.", 25 VCC2 (power) "Power Supply is used Primarily to Power Internal Logic Circuitry. Must be connected to VCC.", 26 MODE (in) "Used in conjunction with VDDS to allow SCL, SDA and S\M\B\A\L\E\R\T\ to indicate charging status. May also be used as a hardware charge inhibit.", 27 TH2B "Thermistor Force/Sense Connection to Smart Battery 2 SafetySignal. Connect to Battery 2 thermistor through resistor network shown in “Typical Application.”", 28 TH2A "Thermistor Force/Sense Connection to Smart Battery 2 SafetySignal. Connect to Battery 2 thermistor through resistor network shown in “Typical Application.”", 29 ~{SMBALERT} (oc) "Active Low Interrupt Pin. Signals SMBus Host that there has been a change of status in battery or AC presence. Open drain with weak current source pull-up to VCC2 (with Schottky to allow it to be pulled to 5V externally). (See Datasheet)", 30 TH1A "Thermistor Force/Sense Connection to Smart Battery 1 SafetySignal. Connect to Battery 1 thermistor through resistor network shown in “Typical Application.”", 31 TH1B "Thermistor Force/Sense Connection to Smart Battery 1 SafetySignal. Connect to Battery 1 thermistor through resistor network shown in “Typical Application.”", 32 ILIMIT (in) "An external resistor (RILIMIT) is connected between this pin and GND. The value of the external resistor programs the range and resolution of the programmed charger current.", 33 VLIMIT (in) "An external resistor (RVLIMIT)is connected between this pin and GND. The value of the external resistor programs the range and resolution of the voltage DAC", 34 CSN (in) "Current Amplifier CA1 Input. Connect this to the common output of the charger MUX switches.", 35 CSP (in) "Current Amplifier CA1 Input. This pin and the CSN pin measure the voltage across the charge current sense resistor, RSENSE, to provide the instantaneous current signals required for both peak and average current mode (See Datasheet)", 36 CLP (in) "The Positive Input to the Supply Current Limiting Amplifier CL1. The threshold is set at 100mV above the voltage at the DCIN pin. When used to limit supply current, a filter is needed to filter out the switching noise.", 37 COMP1 "The Compensation Node for the Amplifier CL1. A capacitor is required from this pin to GND if input current amplifier CL1 is used. At input adapter current limit, this node rises to 1V. By forcing COMP1 to GND, amplifier CL1 (See Datasheet)", 38 PGND (power) "High Current Ground Return for BGATE Driver", 39 BGATE (out) "Drives the gate of the bottom external MOSFET of the battery charger buck converter.", 40 VCC (power) "Internal Regulator Output. Bypass this output with at least a 2uF to 4.7uF capacitor. Do not use this regulator output to supply external circuitry except as shown in the application circuit.", 41 DCIN (power) "Supply. External DC power source. A 0.1uF bypass capacitor must be connected to this pin as close as possible. No series resistance is allowed, since the adapter current limit comparator input is also this pin.", 42 SW "PWM Switch Node. Connected to the source of the top external MOSFET. Used as reference for top gate driver", 43 BOOST "Supply to Topside Floating Driver. The bootstrap capacitor is returned to this pin. Voltage swing at this pin is from a diode drop below VCC to (DCIN + VCC).", 44 TGATE (out) "Drives the gate of the top external MOSFET of the battery charger buck converter.", 45 SCH1 (in) "Charger MUX N-Channel Switch Source Returns. These two pins are connected to the sources of the back-to-back switch pairs Q3/Q4 and Q9/Q10 (see Typical Applications). A small pull-down current source returns these nodes to (See Datasheet)", 46 GCH1 (out) "Charger MUX N-Channel Switch Gate Drives. These two pins drive the gates of the back-to-back switch pairs, Q3/Q4 and Q9/Q10, between the charger output and the two batteries (see Typical Applications).", 47 GCH2 (out) "Charger MUX N-Channel Switch Gate Drives. These two pins drive the gates of the back-to-back switch pairs, Q3/Q4 and Q9/Q10, between the charger output and the two batteries (see Typical Applications).", 48 SCH2 (in) "Charger MUX N-Channel Switch Source Returns. These two pins are connected to the sources of the back-to-back switch pairs Q3/Q4 and Q9/Q10 (see Typical Applications). A small pull-down current source returns these nodes to (See Datasheet)"